# Altium schematic symbol library Адаптер-Линия 2  УШЯИ. 687415.025 Э3.SchLib: 2 symbols
Pins are listed as number, name and electrical type; pins without a type are passive.

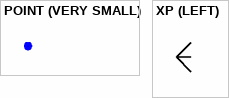
[diagram p0: symbols POINT (VERY SMALL) to XP (LEFT)]

## POINT (VERY SMALL)
designator U?  (value not drawn)
Value: *
pins: 0

## XP (LEFT)
designator U?  (value not drawn)
Value: *
pins: 0